# Altium footprint library SK02-111006NL.PcbLib: 1 footprints
Each footprint in its own frame and in the unit in brackets; x right, y up, seen from the top. Pads: shape width x height; smd on the part's side, far side on the other; paste and mask are expansions set on the pad; w line width, h text height; cw(c..) or ccw(c..) is an arc to the next point about the centre after c.
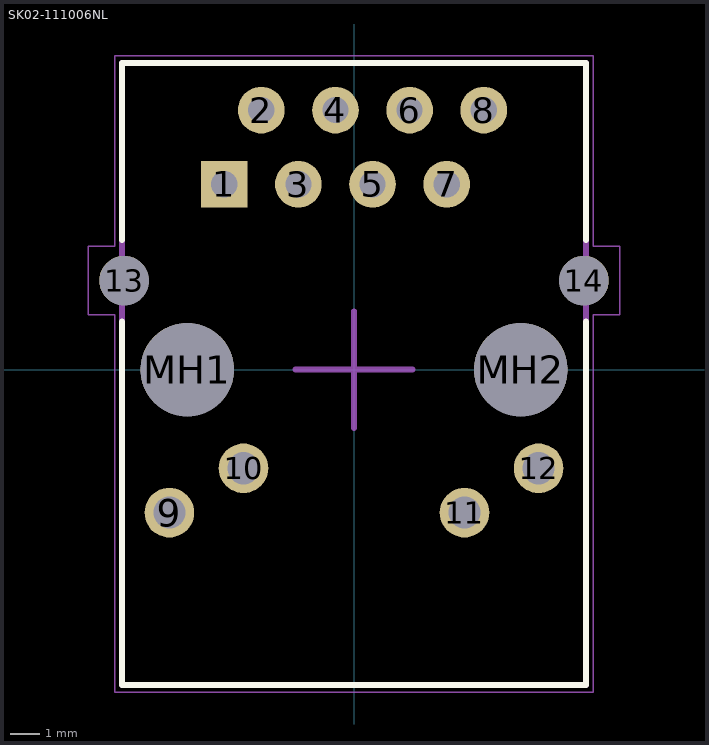
[diagram p0: the footprint, top view; thin cyan lines are the x and y axes]

## SK02-111006NL [mm]
height 15
pads (16):
  rect 1.6x1.6 hole 0.9 mask+0.05: 1(-4.445,6.35)
  round 1.6 hole 0.9 mask+0.05: 2(-3.175,8.89) 3(-1.905,6.35) 4(-0.635,8.89) 5(0.635,6.35) 6(1.905,8.89) 7(3.175,6.35) 8(4.445,8.89)
  round 1.7 hole 1.1 mask+0.05: 9(-6.325,-4.9) 10(-3.785,-3.38) 11(3.785,-4.9) 12(6.325,-3.38)
  round 1.7 hole 1.7 unplated mask+0.05: 13(-7.875,3.05) 14(7.875,3.05)
  round 3.2 hole 3.2 unplated mask+0.05: MH1(-5.715,0) MH2(5.715,0)
Top Overlay:
  lines w0.2: -7.95,1.651 -7.95,-10.8 7.95,-10.8 7.95,1.651 ; -7.95,4.445 -7.95,10.5 7.95,10.5 7.95,4.445
Top Assembly:
  lines w0.2: -2,0 2,0 ; 0,-2 0,2 ; -7.95,-10.8 7.95,-10.8 7.95,10.5 -7.95,10.5 -7.95,-10.8
Top Courtyard:
  lines w0.05: -9.1,1.875 -8.2,1.875 -8.2,-11.05 8.2,-11.05 8.2,1.875 9.1,1.875 9.1,4.225 8.2,4.225 8.2,10.75 -8.2,10.75 -8.2,4.225 -9.1,4.225 -9.1,1.875
Top Designator:
  text ".Designator" at -7.618,-0.658 h1.52
3D body "TRJ4011ABNL.STEP": height 15.4, standoff -4, extent -9.95,-10.8 9.95,10.5